# Altium footprint library OPL_IC.PCBLIB: 32 footprints (part 1 of 2)
Each footprint in its own frame and in the unit in brackets; x right, y up, seen from the top. Pads: shape width x height; smd on the part's side, far side on the other; paste and mask are expansions set on the pad; w line width, h text height; cw(c..) or ccw(c..) is an arc to the next point about the centre after c.
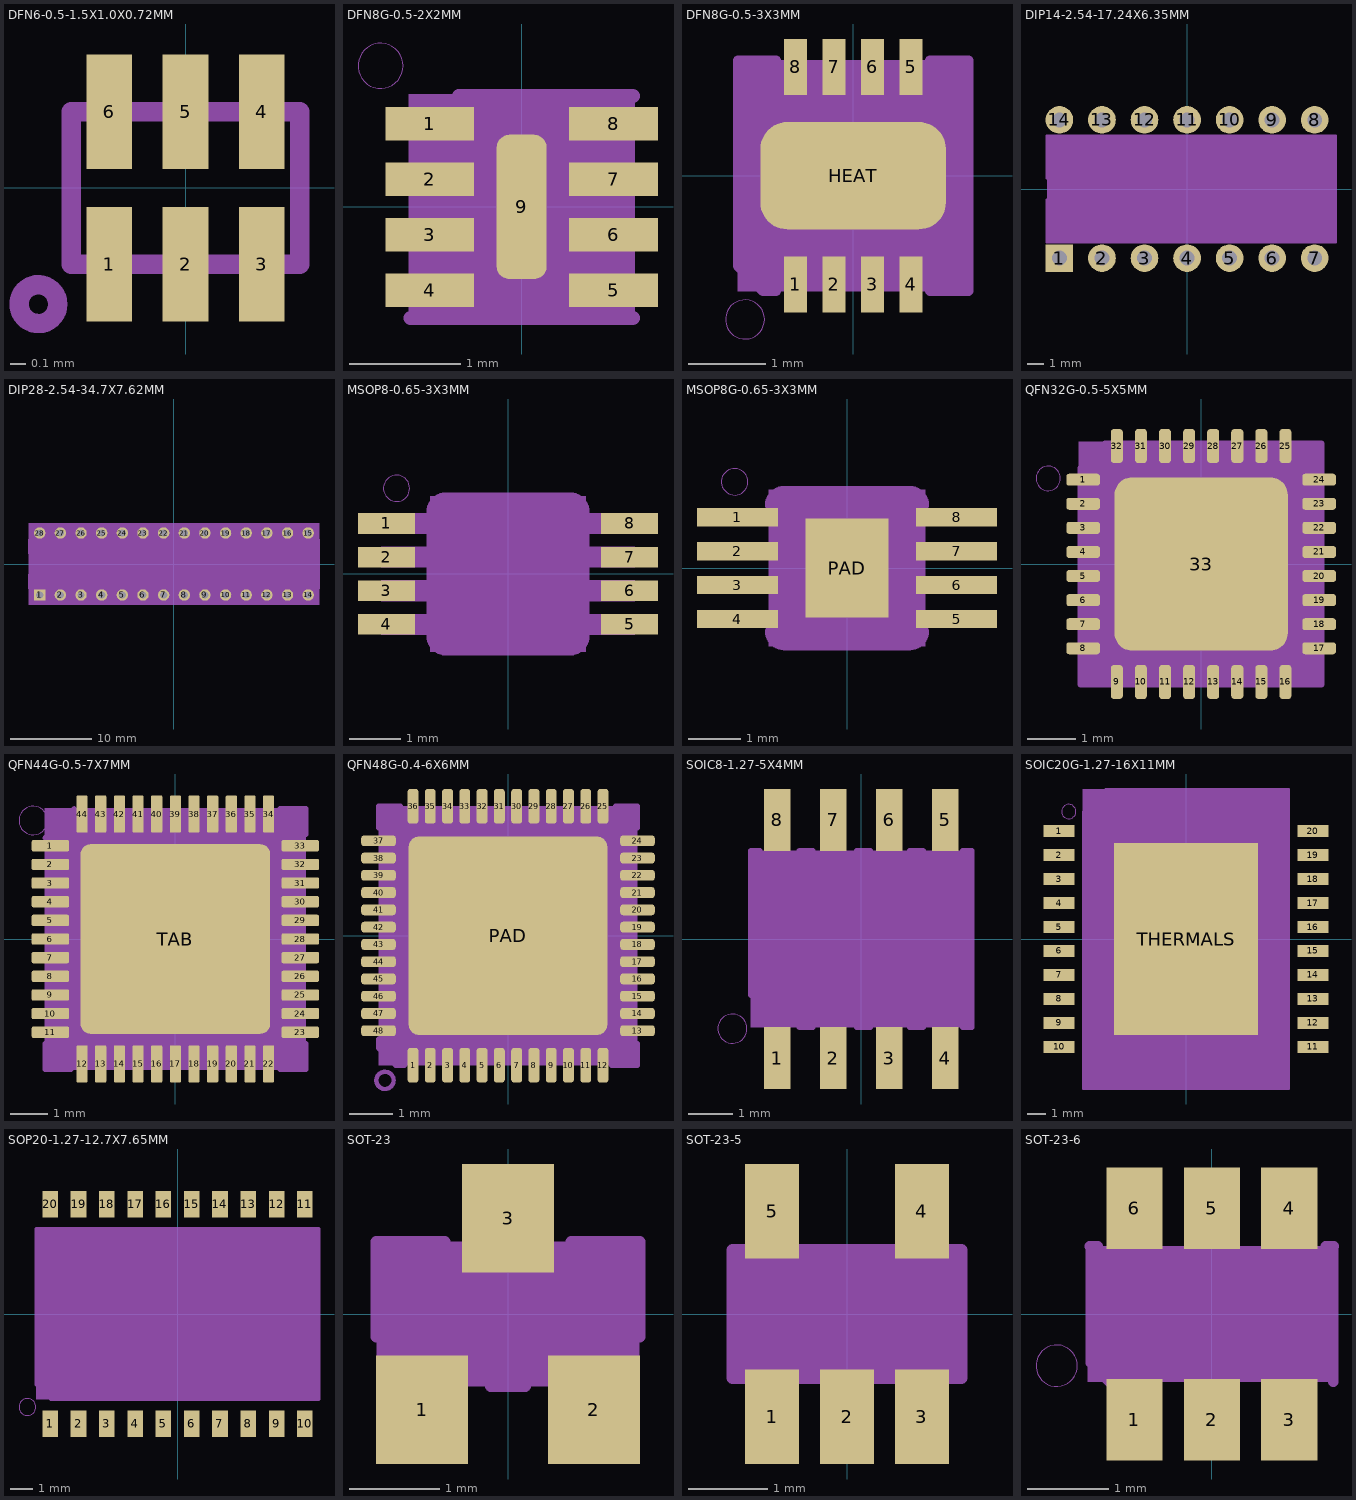
[diagram p0: the footprints below, top view; thin cyan lines are the x and y axes]

## DFN6-0.5-1.5X1.0X0.72MM [mm]
pads (6):
  rect 0.3x0.75 smd: 1(-0.5,-0.5) 2(0,-0.5) 3(0.5,-0.5) 4(0.5,0.5) 5(0,0.5) 6(-0.5,0.5)
Mechanical 2:
  circle w0.127: c-0.965,-0.762 r0.127
  lines w0.127: -0.75,-0.5 -0.75,0.5 ; 0.75,-0.5 0.75,0.5
Mechanical 8:
  lines w0.127: -0.75,-0.5 0.75,-0.5 ; -0.75,0.5 0.75,0.5

## DFN8G-0.5-2X2MM [mil]
pads (9):
  rect 31.5x11.81 smd: 1(-32.56,29.53) 2(-32.56,9.84) 3(-32.56,-9.84) 4(-32.56,-29.53) 5(32.56,-29.53) 6(32.56,-9.84) 7(32.56,9.84) 8(32.56,29.53)
  rrect50% 17.72x51.18 smd: 9(0,0)
Mechanical 2:
  circle w0: c-50,50 r8
  lines w5: -39.37,-39.37 39.37,-39.37 ; -22.22,39.37 39.37,39.37
Mech34:
  region: -40,-40 -40,40 40,40 40,-40

## DFN8G-0.5-3X3MM [mil]
pads (9):
  rect 11.81x28.62 smd: 1(-29.53,-55.65) 2(-9.84,-55.65) 3(9.84,-55.65) 4(29.53,-55.65) 5(29.53,55.65) 6(9.84,55.65) 7(-9.84,55.65) 8(-29.53,55.65)
  rrect50% 95x55 smd: HEAT(0,0)
Mechanical 2:
  circle w0: c-55.32,-73.62 r10
  lines w5: -46.25,-59.06 -59.06,-46.25 -59.06,59.06 -39.37,59.06 ; -45.28,-59.06 -39.37,-59.06 ; 39.37,-59.06 59.06,-59.06 59.06,59.06 39.37,59.06
Mech34:
  region: -59.06,-59.06 -59.06,59.06 59.06,59.06 59.06,-59.06

## DIP14-2.54-17.24X6.35MM [mil]
pads (14):
  rect 65x65 hole 35: 1(-300,-162.5)
  round 65 hole 35: 2(-200,-162.5) 3(-100,-162.5) 4(0,-162.5) 5(100,-162.5) 6(200,-162.5) 7(300,-162.5) 8(300,162.5) 9(200,162.5) 10(100,162.5) 11(0,162.5) 12(-100,162.5) 13(-200,162.5) 14(-300,162.5)
Mechanical 2:
  lines w5: -330,-125 350,-125 350,125 -330,125 -330,25 cw(c-330,0) -305,0 cw(c-330,0) -330,-25 -330,-125
Mech34:
  region: -328.74,-125 -328.74,125 350,125 350,-125

## DIP28-2.54-34.7X7.62MM [mm]
pads (28):
  rect 1.4x1.4 hole 0.9: 1(-16.51,-3.81)
  round 1.4 hole 0.9: 2(-13.97,-3.81) 3(-11.43,-3.81) 4(-8.89,-3.81) 5(-6.35,-3.81) 6(-3.81,-3.81) 7(-1.27,-3.81) 8(1.27,-3.81) 9(3.81,-3.81) 10(6.35,-3.81) 11(8.89,-3.81) 12(11.43,-3.81) 13(13.97,-3.81) 14(16.51,-3.81) 15(16.51,3.81) 16(13.97,3.81) 17(11.43,3.81) 18(8.89,3.81) 19(6.35,3.81) 20(3.81,3.81) 21(1.27,3.81) 22(-1.27,3.81) 23(-3.81,3.81) 24(-6.35,3.81) 25(-8.89,3.81) 26(-11.43,3.81) 27(-13.97,3.81) 28(-16.51,3.81)
Mechanical 2:
  lines w0.127: -17.84,-3.05 17.84,-3.05 17.84,3.05 -17.84,3.05 -17.84,1.27 cw(c-17.785,-0.005) -16.51,0.05 -16.51,-0.05 cw(c-17.785,0.005) -17.84,-1.27 -17.84,-3.05
Mech34:
  region: -17.84,-5 -17.84,5 17.84,5 17.84,-5

## MSOP8-0.65-3X3MM [mm]
pads (8):
  rect 1.1x0.4 smd: 1(-2.35,0.975) 2(-2.35,0.325) 3(-2.35,-0.325) 4(-2.35,-0.975) 5(2.35,-0.975) 6(2.35,-0.325) 7(2.35,0.325) 8(2.35,0.975)
Mechanical 2:
  circle w0: c-2.155,1.655 r0.254
  lines w0.152: -1.5,-1.2 -1.5,1.2 cw(c-1.2,1.2) -1.2,1.5 1.2,1.5 cw(c1.2,1.2) 1.5,1.2 1.5,-1.2 cw(c1.2,-1.2) 1.2,-1.5 -1.2,-1.5 cw(c-1.2,-1.2) -1.5,-1.2
Mechanical 8:
  region: 2.45,-1.175 1.55,-1.175 1.55,-0.775 2.45,-0.775
  region: 2.45,-0.525 1.55,-0.525 1.55,-0.125 2.45,-0.125
  region: 2.45,0.125 1.55,0.125 1.55,0.525 2.45,0.525
  region: 2.45,0.775 1.55,0.775 1.55,1.175 2.45,1.175
  region: -1.55,0.775 -2.45,0.775 -2.45,1.175 -1.55,1.175
  region: -1.55,0.125 -2.45,0.125 -2.45,0.525 -1.55,0.525
  region: -1.55,-0.525 -2.45,-0.525 -2.45,-0.125 -1.55,-0.125
  region: -1.55,-1.175 -2.45,-1.175 -2.45,-0.775 -1.55,-0.775
Mech34:
  region: -1.5,-1.5 -1.5,1.5 1.5,1.5 1.5,-1.5

## MSOP8G-0.65-3X3MM [mm]
pads (9):
  rect 1.55x0.35 smd: 1(-2.1,0.975) 2(-2.1,0.325) 3(-2.1,-0.325) 4(-2.1,-0.975) 5(2.1,-0.975) 6(2.1,-0.325) 7(2.1,0.325) 8(2.1,0.975)
  rect 1.6x1.9 smd: PAD(0,0)
Mechanical 2:
  circle w0: c-2.155,1.655 r0.254
  lines w0.152: -1.5,-1.2 ccw(c-1.2,-1.2) -1.2,-1.5 1.2,-1.5 ccw(c1.2,-1.2) 1.5,-1.2 ; -1.5,1.2 cw(c-1.2,1.2) -1.2,1.5 1.2,1.5 cw(c1.2,1.2) 1.5,1.2
Mech34:
  region: -1.5,-1.5 -1.5,1.5 1.5,1.5 1.5,-1.5

## QFN32G-0.5-5X5MM [mm]
pads (33):
  rrect50% 0.7x0.25 smd: 1(-2.45,1.75) 2(-2.45,1.25) 3(-2.45,0.75) 4(-2.45,0.25) 5(-2.45,-0.25) 6(-2.45,-0.75) 7(-2.45,-1.25) 8(-2.45,-1.75) 17(2.45,-1.75) 18(2.45,-1.25) 19(2.45,-0.75) 20(2.45,-0.25) 21(2.45,0.25) 22(2.45,0.75) 23(2.45,1.25) 24(2.45,1.75)
  rrect50% 0.25x0.7 smd: 9(-1.75,-2.45) 10(-1.25,-2.45) 11(-0.75,-2.45) 12(-0.25,-2.45) 13(0.25,-2.45) 14(0.75,-2.45) 15(1.25,-2.45) 16(1.75,-2.45) 25(1.75,2.45) 26(1.25,2.45) 27(0.75,2.45) 28(0.25,2.45) 29(-0.25,2.45) 30(-0.75,2.45) 31(-1.25,2.45) 32(-1.75,2.45)
  rrect20% 3.6x3.6 smd: 33(0,0)
Mechanical 2:
  circle w0: c-3.175,1.778 r0.254
  lines w0.127: -2.5,-2.5 -2.5,1.992 -1.992,2.5 2.5,2.5 2.5,-2.5 -2.5,-2.5
Mech34:
  region: -2.54,-2.54 -2.54,2.54 2.54,2.54 2.54,-2.54

## QFN44G-0.5-7X7MM [mm]
pads (45):
  rrect25% 1x0.3 smd: 1(-3.35,2.5) 2(-3.35,2) 3(-3.35,1.5) 4(-3.35,1) 5(-3.35,0.5) 6(-3.35,0) 7(-3.35,-0.5) 8(-3.35,-1) 9(-3.35,-1.5) 10(-3.35,-2) 11(-3.35,-2.5) 23(3.35,-2.5) 24(3.35,-2) 25(3.35,-1.5) 26(3.35,-1) 27(3.35,-0.5) 28(3.35,0) 29(3.35,0.5) 30(3.35,1) 31(3.35,1.5) 32(3.35,2) 33(3.35,2.5)
  rrect25% 0.3x1 smd: 12(-2.5,-3.35) 13(-2,-3.35) 14(-1.5,-3.35) 15(-1,-3.35) 16(-0.5,-3.35) 17(0,-3.35) 18(0.5,-3.35) 19(1,-3.35) 20(1.5,-3.35) 21(2,-3.35) 22(2.5,-3.35) 34(2.5,3.35) 35(2,3.35) 36(1.5,3.35) 37(1,3.35) 38(0.5,3.35) 39(0,3.35) 40(-0.5,3.35) 41(-1,3.35) 42(-1.5,3.35) 43(-2,3.35) 44(-2.5,3.35)
  rrect10% 5.08x5.08 smd: TAB(0,0)
Mechanical 2:
  circle w0: c-3.81,3.175 r0.381
  lines w0.127: -3.5,-2.8 -3.5,-3.5 -2.8,-3.5 ; -3.5,2.709 -2.709,3.5 ; 2.8,-3.5 3.5,-3.5 3.5,-2.8 ; 2.8,3.5 3.5,3.5 3.5,2.8
Mech34:
  region: -3.5,-3.5 -3.5,3.5 3.5,3.5 3.5,-3.5

## QFN48G-0.4-6X6MM [mm]
pads (49):
  rrect50% 0.25x0.8 smd: 1(-2.2,-3) 2(-1.8,-3) 3(-1.4,-3) 4(-1,-3) 5(-0.6,-3) 6(-0.2,-3) 7(0.2,-3) 8(0.6,-3) 9(1,-3) 10(1.4,-3) 11(1.8,-3) 12(2.2,-3) 25(2.2,3) 26(1.8,3) 27(1.4,3) 28(1,3) 29(0.6,3) 30(0.2,3) 31(-0.2,3) 32(-0.6,3) 33(-1,3) 34(-1.4,3) 35(-1.8,3) 36(-2.2,3)
  rrect50% 0.8x0.25 smd: 13(3,-2.2) 14(3,-1.8) 15(3,-1.4) 16(3,-1) 17(3,-0.6) 18(3,-0.2) 19(3,0.2) 20(3,0.6) 21(3,1) 22(3,1.4) 23(3,1.8) 24(3,2.2) 37(-3,2.2) 38(-3,1.8) 39(-3,1.4) 40(-3,1) 41(-3,0.6) 42(-3,0.2) 43(-3,-0.2) 44(-3,-0.6) 45(-3,-1) 46(-3,-1.4) 47(-3,-1.8) 48(-3,-2.2)
  rrect10% 4.6x4.6 smd: PAD(0,0)
Mechanical 2:
  circle w0.1: c-2.85,-3.35 r0.2
  lines w0.127: -3,-2.4 -3,-2.6 -2.6,-3 -2.4,-3 ; -3,2.5 -3,3 -2.5,3 ; 2.4,-3 3,-3 3,-2.5 ; 2.5,3 3,3 3,2.5
Mech34:
  region: -3,-3 -3,3 3,3 3,-3

## SOIC8-1.27-5X4MM [mm]
pads (8):
  rect 0.6x1.4 smd: 1(-1.905,-2.7) 2(-0.635,-2.7) 3(0.635,-2.7) 4(1.905,-2.7) 5(1.905,2.7) 6(0.635,2.7) 7(-0.635,2.7) 8(-1.905,2.7)
Mechanical 2:
  circle w0: c-2.921,-2.032 r0.33
  lines w0.127: -2.3,2 -2.5,2 -2.5,-1.269 -1.969,-1.8 ; -1.4,-2 -1.1,-2 ; -1.4,2 -1.1,2 ; -0.1,-2 0.2,-2 ; -0.1,2 0.2,2 ; 1.1,-2 1.4,-2 ; 1.1,2 1.4,2 ; 2.3,-2 2.5,-2 2.5,2 2.3,2
Mech34:
  region: -2.5,-2 -2.5,2 2.5,2 2.5,-2

## SOIC20G-1.27-16X11MM [mil]
pads (21):
  rect 65x25 smd: 1(-265,225) 2(-265,175) 3(-265,125) 4(-265,75) 5(-265,25) 6(-265,-25) 7(-265,-75) 8(-265,-125) 9(-265,-175) 10(-265,-225) 11(265,-225) 12(265,-175) 13(265,-125) 14(265,-75) 15(265,-25) 16(265,25) 17(265,75) 18(265,125) 19(265,175) 20(265,225)
  rect 300x400 smd paste-200: THERMALS(0,0)
Top Paste:
  region: -100,87.5 -100,162.5 -25,162.5 -25,87.5
  region: 25,87.5 25,162.5 100,162.5 100,87.5
  region: -100,-37.5 -100,37.5 -25,37.5 -25,-37.5
  region: 25,-37.5 25,37.5 100,37.5 100,-37.5
  region: -100,-162.5 -100,-87.5 -25,-87.5 -25,-162.5
  region: 25,-162.5 25,-87.5 100,-87.5 100,-162.5
Mechanical 2:
  circle w0: c-244.69,265.94 r15
  lines w5: -215,-313 215,-313 215,313 -167,313 -215,265 -215,-313
Mech34:
  region: -215,-313 -215,313 215,313 215,-313

## SOP20-1.27-12.7X7.65MM [mm]
pads (20):
  rect 0.7x1.2 smd: 1(-5.715,-4.925) 2(-4.445,-4.925) 3(-3.175,-4.925) 4(-1.905,-4.925) 5(-0.635,-4.925) 6(0.635,-4.925) 7(1.905,-4.925) 8(3.175,-4.925) 9(4.445,-4.925) 10(5.715,-4.925) 11(5.715,4.925) 12(4.445,4.925) 13(3.175,4.925) 14(1.905,4.925) 15(0.635,4.925) 16(-0.635,4.925) 17(-1.905,4.925) 18(-3.175,4.925) 19(-4.445,4.925) 20(-5.715,4.925)
Mechanical 2:
  circle w0: c-6.735,-4.175 r0.381
  lines w0.152: -6.35,-3.175 -6.35,3.825 6.35,3.825 6.35,-3.825 -5.7,-3.825 -6.35,-3.175
Mech34:
  region: -6.35,-3.825 -6.35,3.825 6.35,3.825 6.35,-3.825

## SOT-23 [mil]
pads (3):
  rect 40x47.24 smd: 1(-37.4,-41.73) 2(37.4,-41.73) 3(0,41.73)
Mechanical 2:
  lines w5: -57.5,-10 -57.5,31.5 -27.5,31.5 ; -7.5,-31.5 7.5,-31.5 ; 27.5,31.5 57.5,31.5 57.5,-10
Mechanical 8:
  region: -9,33 -9,56 9,56 9,33
  region: 28,-56 28,-33 46,-33 46,-56
  region: -46,-56 -46,-33 -28,-33 -28,-56
Mech34:
  region: -57.09,-31.5 -57.09,31.5 57.09,31.5 57.09,-31.5

## SOT-23-5 [mm]
pads (5):
  rect 0.69x1.2 smd: 1(-0.95,-1.3) 2(0,-1.3) 3(0.95,-1.3) 4(0.95,1.3) 5(-0.95,1.3)
Mechanical 2:
  lines w0.152: -1.328,-0.811 -1.45,-0.811 -1.45,0.811 -1.328,0.811 ; -0.522,-0.811 -0.427,-0.811 ; -0.522,0.811 0.522,0.811 ; 0.427,-0.811 0.522,-0.811 ; 1.328,-0.811 1.45,-0.811 1.45,0.811 1.328,0.811
Mechanical 8:
  region: -1.2,-1.5 -1.2,-0.85 -0.7,-0.85 -0.7,-1.5
  region: -0.25,-1.5 -0.25,-0.85 0.25,-0.85 0.25,-1.5
  region: 0.7,-1.5 0.7,-0.85 1.2,-0.85 1.2,-1.5
  region: 0.7,0.85 0.7,1.5 1.2,1.5 1.2,0.85
  region: -1.2,0.85 -1.2,1.5 -0.7,1.5 -0.7,0.85
  lines w0.152: -1.422,-0.811 1.422,-0.811 ; -1.422,0.811 1.422,0.811
Mech34:
  region: -1.397,-0.762 -1.397,0.762 1.397,0.762 1.397,-0.762

## SOT-23-6 [mm]
pads (6):
  rect 0.69x1 smd: 1(-0.95,-1.3) 2(0,-1.3) 3(0.95,-1.3) 4(0.95,1.3) 5(0,1.3) 6(-0.95,1.3)
Mechanical 2:
  circle w0: c-1.905,-0.635 r0.254
  lines w0.127: -1.49,0.83 -1.49,-0.6 -1.26,-0.83 ; 1.49,-0.83 1.49,0.83
Mechanical 8:
  lines w0.127: -1.5,0.83 -1.4,0.83 ; 1.4,0.83 1.5,0.83
Mech34:
  region: -1.524,-0.83 -1.524,0.83 1.524,0.83 1.524,-0.83